# Altium schematic symbol library fuse.SchLib: 3 symbols
Pins are listed as number, name and electrical type; pins without a type are passive.

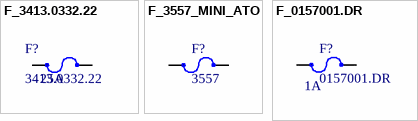
[diagram p0: symbols F_3413.0332.22 to F_0157001.DR]

## F_3413.0332.22
designator F?, comment 3413.0332.22  value 25A
FUSE BOARD MOUNT 25A 32VAC 63VDC; Response Time: Slow; Voltage Rating - AC: 32V; Voltage Rating - DC: 63V; Supplier 1: Digi-Key; Supplier Part Number 1: 486-1690-6-ND
footprint 1206_Fuse (1206 Fuse)
pins: 1, 2

## F_3557_MINI_ATO
designator F?, comment 3557
Manufacturer: Keystone Electronics; Material: Brass,Nickel; Body Material: Brass; Current Rating: 30A; Voltage Rating (AC): 500V; Number of Circuits: 1; Fuse Current: 20A; Supplier 1: Digi-Key; Manufacturer Part Number: 3557; Stock 1: 70386; Pricing 1: 1=0.2, 10=0.185, 50=0.145, 100=0.1282, 250=0.1134, 500=0.1085, 1000=0.0887, 2500=0.0813, 5000=0.0789 (USD); Mount: Through Hole,Vertical,PCB; Contact Plating: Nickel,Tin; Contact Material: Brass; Min Operating Temperature: -50°C; Max Operating Temperature: 145°C; Package Quantity: 1; Termination: PC Pin; Orientation: Vertical; Packaging: Bulk; Voltage: 500V; Length: 0.4inch; Height: 0.15inch; Depth: 4.7mm; Width: 0.185inch; REACH SVHC: No SVHC; Lead Free: Lead Free; ComponentLink1URL: https://datasheet.ciiva.com/16425/m60-2p39-16425699.pdf; ComponentLink1Description: https://datasheet.ciiva.com/16425/m60-2p39-16425699.pdf; ComponentLink2URL: https://datasheet.ciiva.com/22650/1686040-22650696.pdf; ComponentLink2Description: https://datasheet.ciiva.com/22650/1686040-22650696.pdf; Supplier Part Number 1: 3557K-ND
footprint F_3557_Mini (Keystone FUSE CLIP BLADE 500V 30A PCB, Mini ATO)
footprint F_3557_Standard (Keystone FUSE CLIP BLADE 500V 30A PCB, Standard Size)
pins: 1, 2

## F_0157001.DR
designator F?, comment 0157001.DR  value 1A
FUSE BRD MNT 1A 125VAC/VDC 2SMD; Manufacturer: Littelfuse; Voltage Rating (AC): 125V; DC Cold Resistance: 153.7mR; Supplier 1: Digi-Key; Max Operating Temperature: 125°C; Manufacturer Part Number: 0157001.DR; Fuse Current: 1A; Min Operating Temperature: -55°C; Current Rating: 1A; Voltage Rating (DC): 125V; Supplier Part Number 1: F2962DKR-ND
footprint F_157T (Littelfuse 157T)
pins: 1, 2